# EAGLE library part TD-106-T-A (library SAMTEC-Txx_By_element14_Batch_1)
CONN RECEPTACLE, 2.54MM, THT VERT, 12WAY
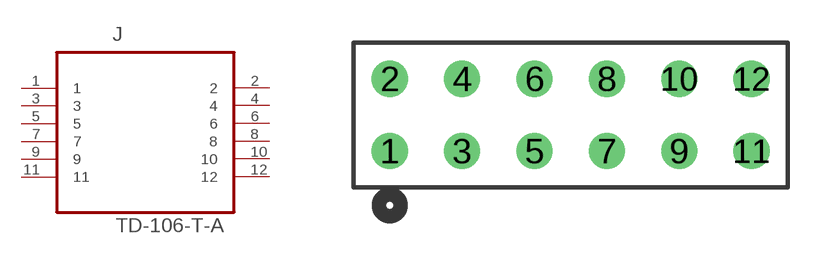
[diagram p7: symbol with the pads of SAMTEC_TD-106-T-A; footprint SAMTEC_TD-106-T-A]

Designator prefix J

## TD-106-T-A (MPN: TD-106-T-A; OC_FARNELL: 2020081; OC_NEWARK: -; PACKAGE: RECEPTACLE, 2.54MM, THT VERT,12WAY; SUPPLIER: SAMTEC)  [SAMTEC_TD-106-T-A]
1  1  pas
2  2  pas
3  3  pas
4  4  pas
5  5  pas
6  6  pas
7  7  pas
8  8  pas
9  9  pas
10  10  pas
11  11  pas
12  12  pas

## Footprint SAMTEC_TD-106-T-A (pad centres in mm)
drill 0.762: 1 -12.7,-2.54; 2 -12.7,0; 3 -10.16,-2.54; 4 -10.16,0; 5 -7.62,-2.54; 6 -7.62,0; 7 -5.08,-2.54; 8 -5.08,0; 9 -2.54,-2.54; 10 -2.54,0; 11 0,-2.54; 12 0,0